# Altium schematic symbol library Schematic_Battery.SchLib: 3 symbols
Pins are listed as number, name and electrical type; pins without a type are passive.

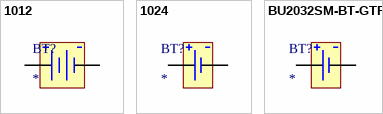
[diagram p0: symbols 1012 to BU2032SM-BT-GTR]

## 1012
designator BT?
SMT HOLDER FOR AA BATTERY; Manufacturer: Keystone Electronics; Manufacturer Part Number: 1012; Number of Cells: 2; Supplier 1: Digi-Key; RoHS: Yes; Category: Uncategorized; Stock 1: 532; Pricing 1: 1=4.38000, 25=3.68320, 100=3.26000, 250=3.11000, 500=2.86000, 1000=2.60001, 2500=2.21850, 5000=2.18000 (USD); Mount: Surface Mount,PCB; Color: Black; Material: Nylon; Contact Plating: Nickel; Min Operating Temperature: -50°C; Max Operating Temperature: 145°C; Package Quantity: 1; Packaging: Tray; Termination: SMD/SMT; Lead Free: Lead Free; ComponentLink1URL: https://datasheet.ciiva.com/16225/1012-283209-16225810.pdf?src-supplier=Mouser; ComponentLink1Description: https://datasheet.ciiva.com/16225/1012-283209-16225810.pdf?src-supplier=Mouser; ComponentLink2URL: https://datasheet.ciiva.com/4/1012-4762.pdf?src-supplier=Digi-Key; ComponentLink2Description: https://datasheet.ciiva.com/4/1012-4762.pdf?src-supplier=Digi-Key
footprint 1012 (BATTERY HOLDER AA 2 CELL SMD TAB)
pins: B+ (power), B- (power)

## 1024
designator BT?
HOLDER BATTERY AA SMD; Manufacturer: Keystone Electronics; Manufacturer Part Number: 1024; Body Material: Nylon,Polypropylene; Number of Cells: 1; Wire/Cable Gauge: 26AWG; Supplier 1: Digi-Key; RoHS: Yes; Category: Batteries and Accessories; Stock 1: 7804; Pricing 1: 1=2.88000, 25=2.42240, 100=2.12000, 250=2.02624, 500=1.87000, 1000=1.70001, 2500=1.46300, 5000=1.42000 (USD); Mount: Surface Mount,PCB; Material: Nylon; Contact Material: Bronze; Contact Plating: Gold; Min Operating Temperature: -50°C; Max Operating Temperature: 145°C; Package Quantity: 1; Packaging: Tray; Termination: SMD/SMT; Number of Batteries: 1; Lead Free: Lead Free; REACH SVHC: No SVHC; ComponentLink1URL: https://datasheet.ciiva.com/4642/m60p19-19340-4642624.pdf?src-supplier=Mouser; ComponentLink1Description: https://datasheet.ciiva.com/4642/m60p19-19340-4642624.pdf?src-supplier=Mouser; ComponentLink2URL: https://datasheet.ciiva.com/1437/m60p19-1437441.pdf?src-supplier=Newark; ComponentLink2Description: https://datasheet.ciiva.com/1437/m60p19-1437441.pdf?src-supplier=Newark; ComponentLink3URL: https://datasheet.ciiva.com/4/1024-4186.pdf?src-supplier=Digi-Key; ComponentLink3Description: https://datasheet.ciiva.com/4/1024-4186.pdf?src-supplier=Digi-Key
footprint 1024 (BATTERY HOLDER AA 1 CELL SMD TAB)
pins: B+ (power), B- (power)

## BU2032SM-BT-GTR
designator BT?
BATTERY HOLDER COIN 20MM SMD; Manufacturer: Memory Protection Devices; Manufacturer Part Number: BU2032SM-BT-GTR; Number of Cells: 1; Supplier 1: Digi-Key; RoHS: Yes; Category: Uncategorized; Stock 1: 7659; Pricing 1: 1=0.85000, 10=0.71300, 50=0.62520, 100=0.58940 (USD); Mount: Surface Mount,PCB; Case/Package: SMD/SMT; Min Operating Temperature: -40°C; Max Operating Temperature: 280°C; Package Quantity: 400; Termination: SMD/SMT; ComponentLink1URL: https://datasheet.ciiva.com/4/bu2032sm-bt-gtr-datasheet-4065.pdf?src-supplier=Digi-Key; ComponentLink1Description: https://datasheet.ciiva.com/4/bu2032sm-bt-gtr-datasheet-4065.pdf?src-supplier=Digi-Key; ComponentLink2URL: https://datasheet.ciiva.com/7613/bu2032sm-bt-gtr-datasheet-7613477.pdf?src-supplier=Digi-Key; ComponentLink2Description: https://datasheet.ciiva.com/7613/bu2032sm-bt-gtr-datasheet-7613477.pdf?src-supplier=Digi-Key; ComponentLink3URL: https://datasheet.ciiva.com/7613/bu2032sm-bt-gtr-datasheet-7613478.pdf?src-supplier=Digi-Key; ComponentLink3Description: https://datasheet.ciiva.com/7613/bu2032sm-bt-gtr-datasheet-7613478.pdf?src-supplier=Digi-Key
footprint BU2032SM-BT-GTR (BATTERY HOLDER COIN 20MM SMD)
pins: B+ (power), B- (power)